# Altium integrated library CAM-M8.IntLib: 1 symbol
Pins are listed as number, name and electrical type; pins without a type are passive.

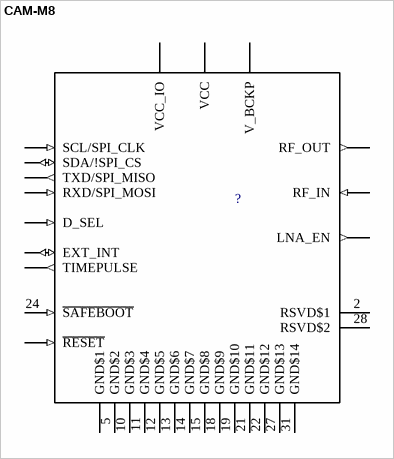
[diagram p0: symbol CAM-M8]

## CAM-M8
designator ?  (value not drawn)
/ Repl. Leica M8 14464 /; MP: CAM-M8; MF: Dantona Industries; Price: None; SnapEDA_Link: https://www.snapeda.com/parts/CAM-M8/Dantona%20Industries/view-part/?ref=snap; Availability: Unavailable; Package: None; Value: *
footprint *CAM-M8
pins: 1 VCC_IO (power), 2 RSVD$1, 3 SDA/!SPI_CS (io), 4 GND$1 (power), 5 GND$2 (power), 6 SCL/SPI_CLK (in), 7 EXT_INT (io), 8 V_BCKP (power), 9 VCC (power), 10 GND$3 (power), 11 GND$4 (power), 12 GND$5 (power), 13 GND$6 (power), 14 GND$7 (power), 15 GND$8 (power), 16 RF_OUT (out), 17 RF_IN (in), 18 GND$9 (power), 19 GND$10 (power), 20 D_SEL (in), 21 GND$11 (power), 22 GND$12 (power), 23 ~{RESET} (in), 24 ~{SAFEBOOT} (in), 25 TXD/SPI_MISO (out), 26 RXD/SPI_MOSI (in), 27 GND$13 (power), 28 RSVD$2, 29 TIMEPULSE (out), 30 LNA_EN (out), 31 GND$14 (power)